# EAGLE library part BQ77910A_BATTERY_PROTECTOR (library Taylor)
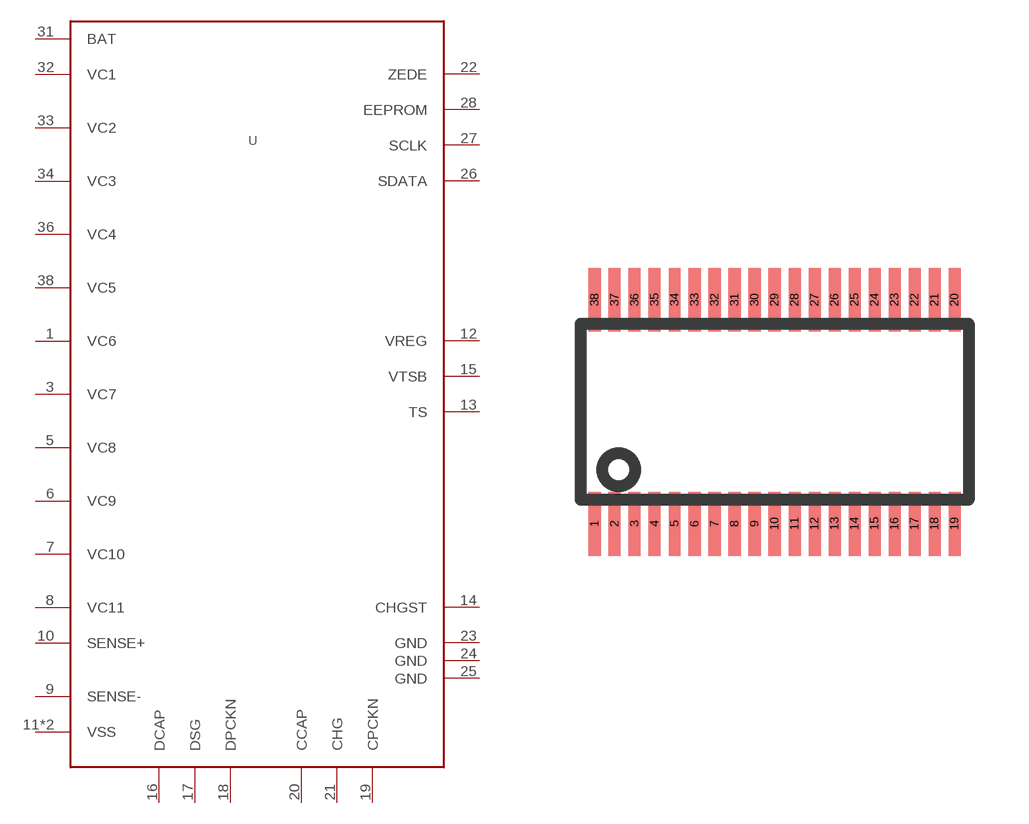
[diagram p33: symbol with the pads of TSSOP38; footprint TSSOP38]

Designator prefix U

## BQ77910A_BATTERY_PROTECTOR  [TSSOP38]
1  VC6
3  VC7
5  VC8
6  VC9
7  VC10
8  VC11
9  SENSE-
10  SENSE+
11  VSS
12  VREG
13  TS
14  CHGST
15  VTSB
16  DCAP
17  DSG
18  DPCKN
19  CPCKN
20  CCAP
21  CHG
22  ZEDE
23  GND
24  GND
25  GND
26  SDATA
27  SCLK
28  EEPROM
29  VSS
31  BAT
32  VC1
33  VC2
34  VC3
36  VC4
38  VC5

## Footprint TSSOP38 (pad centres in mm)
smd 0.3 x 1.6: 1 -4.5,-2.8; 2 -4,-2.8; 3 -3.5,-2.8; 4 -3,-2.8; 5 -2.5,-2.8; 6 -2,-2.8; 7 -1.5,-2.8; 8 -1,-2.8; 9 -0.5,-2.8; 10 0,-2.8; 11 0.5,-2.8; 12 1,-2.8; 13 1.5,-2.8; 14 2,-2.8; 15 2.5,-2.8; 16 3,-2.8; 17 3.5,-2.8; 18 4,-2.8; 19 4.5,-2.8; 20 4.5,2.8; 21 4,2.8; 22 3.5,2.8; 23 3,2.8; 24 2.5,2.8; 25 2,2.8; 26 1.5,2.8; 27 1,2.8; 28 0.5,2.8; 29 0,2.8; 30 -0.5,2.8; 31 -1,2.8; 32 -1.5,2.8; 33 -2,2.8; 34 -2.5,2.8; 35 -3,2.8; 36 -3.5,2.8; 37 -4,2.8; 38 -4.5,2.8